# Altium footprint library Sprite.PCBLIB: 71 footprints (part 2 of 5)
Each footprint in its own frame and in the unit in brackets; x right, y up, seen from the top. Pads: shape width x height; smd on the part's side, far side on the other; paste and mask are expansions set on the pad; w line width, h text height; cw(c..) or ccw(c..) is an arc to the next point about the centre after c.
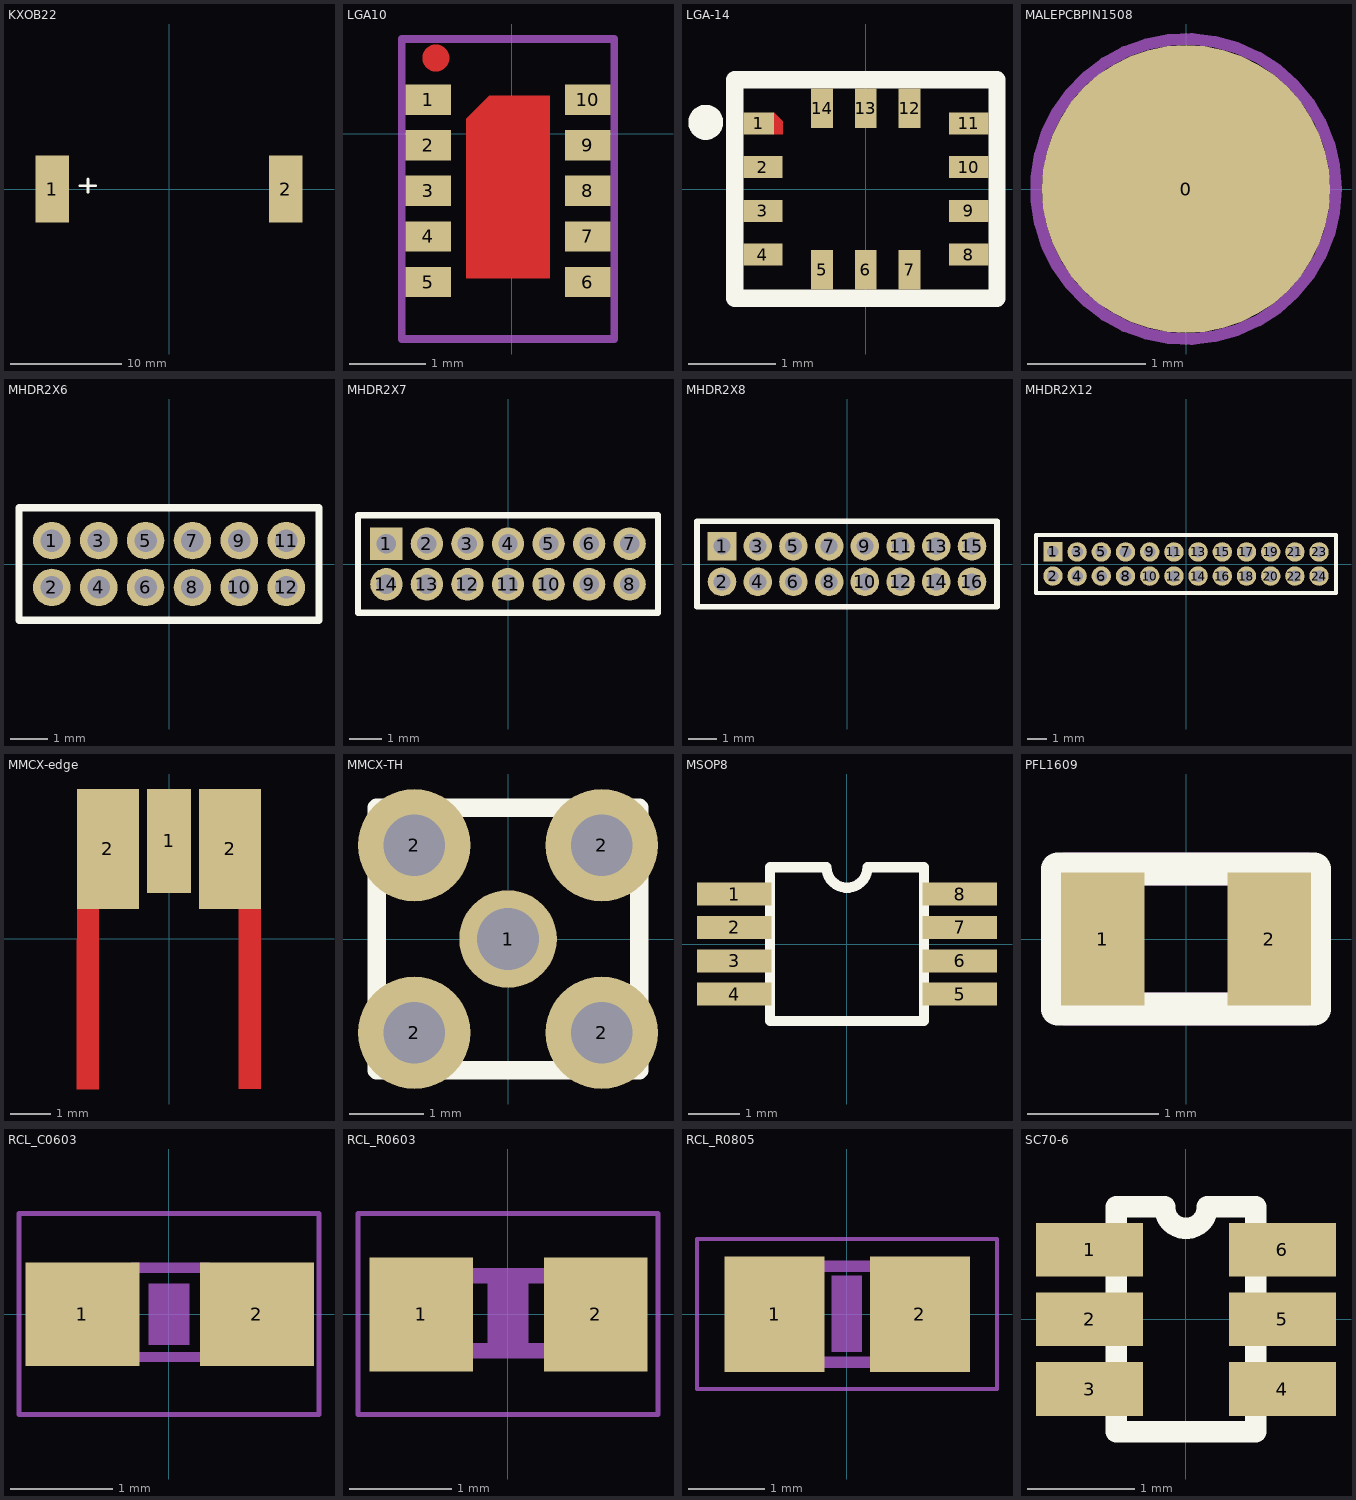
[diagram p1: the footprints below, top view; thin cyan lines are the x and y axes]

## KXOB22 [mm] "IXYS Solar Panel"
height 2
pads (2):
  rect 3x6 smd: 1(-10.5,0) 2(10.5,0)
Top Overlay:
  lines w0.254: -8,0.3 -6.6,0.3 ; -7.3,-0.3 -7.3,0.9
3D body: height 2, standoff 0, extent -11,-3.5 11,3.5

## LGA10 [mm]
pads (10):
  rect 0.6x0.4 smd: 1(-1.1,0.45) 2(-1.1,-0.15) 3(-1.1,-0.75) 4(-1.1,-1.35) 5(-1.1,-1.95) 6(1,-1.95) 7(1,-1.35) 8(1,-0.75) 9(1,-0.15) 10(1,0.45)
Top Layer:
  circle w0.254: c-1,1 r0.05
  region: 0.5,-1.9 -0.6,-1.9 -0.6,0.2 -0.3,0.5 0.5,0.5
Mechanical 13:
  lines w0.1: -1.45,-2.7 1.35,-2.7 1.35,1.25 -1.45,1.25 -1.45,0.75 -1.45,-2.25 -1.45,-2.7
3D body: height 1.1, standoff 0, extent -1.45,-2.7 1.35,1.25

## LGA-14 [mm]
pads (14):
  rect 0.35x0.25 smd mask+0.07: 1(-1.225,0.75)
  rect 0.45x0.25 smd mask+0.07: 2(-1.175,0.25) 3(-1.175,-0.25) 4(-1.175,-0.75) 8(1.175,-0.75) 9(1.175,-0.25) 10(1.175,0.25) 11(1.175,0.75)
  rect 0.25x0.45 smd mask+0.07: 5(-0.5,-0.925) 6(0,-0.925) 7(0.5,-0.925) 12(0.5,0.925) 13(0,0.925) 14(-0.5,0.925)
Top Layer:
  region: -1.05,0.875 -0.95,0.775 -0.95,0.625 -1.05,0.625
Top Overlay:
  circle w0.2: c-1.829,0.762 r0.1
  lines w0.2: -1.5,-1.25 -1.5,1.25 1.5,1.25 1.5,-1.25 -1.5,-1.25
Top Paste:
  region: -1.05,0.875 -0.95,0.775 -0.95,0.625 -1.05,0.625
Top Solder:
  region: -0.98,0.555 -0.88,0.555 -0.88,0.846 -0.98,0.946
Mechanical 13:
  lines w0.1: -1.5,-1.25 1.5,-1.25 1.5,1.25 -1.5,1.25 -1.5,-1.25
3D body: height 0.86, standoff 0, extent -1.499,-1.25 1.501,1.25

## MALEPCBPIN1508 [mil] "Mill-Max Male PCB pin PN 1508"
pads (1):
  round 96 smd paste-118.11: 0(0,0)
Mechanical 13:
  circle w3.94: c0,0 r50

## MHDR2X6 [mil]
pads (12):
  round 40 hole 24 paste+0 mask+0: 1(-125,25) 2(-125,-25) 3(-75,25) 4(-75,-25) 5(-25,25) 6(-25,-25) 7(25,25) 8(25,-25) 9(75,25) 10(75,-25) 11(125,25) 12(125,-25)
Top Overlay:
  lines w7.87: -160,-60 -160,60 160,60 160,-60 -160,-60

## MHDR2X7 [mil]
pads (14):
  rect 40x40 hole 24 paste+0 mask+0: 1(-150,25)
  round 40 hole 24 paste+0 mask+0: 2(-100,25) 3(-50,25) 4(0,25) 5(50,25) 6(100,25) 7(150,25) 8(150,-25) 9(100,-25) 10(50,-25) 11(0,-25) 12(-50,-25) 13(-100,-25) 14(-150,-25)
Top Overlay:
  lines w7.87: -185,-60 185,-60 185,60 -185,60 -185,-60

## MHDR2X8 [mil]
pads (16):
  rect 40x40 hole 24 paste+0 mask+0: 1(-175,25)
  round 40 hole 24 paste+0 mask+0: 2(-175,-25) 3(-125,25) 4(-125,-25) 5(-75,25) 6(-75,-25) 7(-25,25) 8(-25,-25) 9(25,25) 10(25,-25) 11(75,25) 12(75,-25) 13(125,25) 14(125,-25) 15(175,25) 16(175,-25)
Top Overlay:
  lines w7.87: -210,-60 -210,60 210,60 210,-60 -210,-60

## MHDR2X12 [mil]
pads (24):
  rect 40x40 hole 24 paste+0: 1(-275,25)
  round 40 hole 24 paste+0: 2(-275,-25) 3(-225,25) 4(-225,-25) 5(-175,25) 6(-175,-25) 7(-125,25) 8(-125,-25) 9(-75,25) 10(-75,-25) 11(-25,25) 12(-25,-25) 13(25,25) 14(25,-25) 15(75,25) 16(75,-25) 17(125,25) 18(125,-25) 19(175,25) 20(175,-25) 21(225,25) 22(225,-25) 23(275,25) 24(275,-25)
Top Overlay:
  lines w7.87: -310,-60 310,-60 310,60 -310,60 -310,-60

## MMCX-edge [mm] "MMCX - Board Edge Connector"
height 3.5
pads (3):
  rect 1.1x2.6 smd paste+0 mask+0.05: 1(0,2.45)
  rect 1.55x3 smd paste+0 mask+0.05: 2(-1.525,2.25) 2(1.525,2.25)
Top Layer:
  region: -2.3,3.75 -0.75,3.75 -0.75,0.75 -1.753,0.75 -1.753,-3.75 -2.3,-3.75
  region: 2.3,3.75 0.75,3.75 0.75,0.75 1.75,0.75 1.75,-3.75 2.3,-3.75
Top Paste:
  rectangle: -2.3,-3.75 -1.753,0.8
  rectangle: 1.75,-3.75 2.3,0.8
Top Solder:
  rectangle: -0.55,1.15 0.55,3.75
  region: -2.337,3.75 -0.75,3.75 -0.75,0.75 -1.75,0.75 -1.75,-3.75 -2.337,-3.75
  region: 0.75,3.75 2.337,3.75 2.337,-3.75 1.75,-3.75 1.75,0.75 0.75,0.75

## MMCX-TH [mil] "MMCX Molex TH 734151001"
height 3.5
pads (5):
  round 52 hole 33: 1(0,0)
  round 60 hole 33: 2(-50,-50) 2(-50,50) 2(50,-50) 2(50,50)
Top Overlay:
  lines w10: -70,-70 70,-70 70,70 -70,70 -70,-70
3D body: height 142, standoff 0, extent -70,-70 70,70

## MSOP8 [mm]
pads (8):
  rect 1.45x0.45 smd mask+0.05: 1(-2.2,0.975) 2(-2.2,0.325) 3(-2.2,-0.325) 4(-2.2,-0.975) 5(2.2,-0.975) 6(2.2,-0.325) 7(2.2,0.325) 8(2.2,0.975)
Top Overlay:
  lines w0.2: -1.5,-1.5 1.5,-1.5 1.5,1.5 0.4,1.5 cw(c0,1.5) -0.4,1.5 -1.5,1.5 -1.5,-1.5
3D body: height 2, standoff 1.1, extent -1.5,-1.5 1.5,1.5

## PFL1609 [mil]
pads (2):
  rect 25x40 smd: 1(-25,0) 2(25,0)
Top Overlay:
  lines w10: -38.5,-21 -38.5,0 -38.5,21 38.5,21 38.5,-21 -38.5,-21
Mechanical 13:
  lines w10: -36,-21 36,-21 36,21 -36,21 -36,-21
3D body: height 37, standoff 0, extent -36,-21 36,21

## RCL_C0603 [mil]
pads (2):
  rect 44x40 smd: 1(-33.46,0) 2(34,0)
Mechanical 2:
  text ">NAME" at -25,25 h77.5
Mechanical 4:
  text ">VALUE" at -25,-75 h77.5
Mechanical 6:
  rectangle: -7.87,-11.81 8,12
Mechanical 16:
  rectangle: 13,-18.5 33,19
  rectangle: -33,-18.5 -13.31,19
  lines w4: -14.02,-16.5 15,-16.5 ; -14.02,18 15,18
Mechanical 27:
  lines w2: -57.99,-38.7 -57.99,39 58,39 58,-38.7 -57.99,-38.7

## RCL_R0603 [mil]
pads (2):
  rect 40x44 smd: 1(-33.46,0) 2(34,0)
Mechanical 2:
  text ">NAME" at -25,25 h77.5
Mechanical 4:
  text ">VALUE" at -25,-75 h77.5
Mechanical 6:
  rectangle: -7.87,-15.75 8,16
Mechanical 16:
  rectangle: -33,-17 -17,17
  rectangle: 17,-17 33,17
  lines w6: -17.01,-14.02 18,-14.02 ; -17.01,15 18,15
Mechanical 27:
  lines w2: -57.99,-38.7 -57.99,39 58,39 58,-38.7 -57.99,-38.7

## RCL_R0805 [mil]
pads (2):
  rect 52x60 smd: 1(-37.4,0) 2(38,0)
Mechanical 2:
  text ">NAME" at -25,50 h77.5
Mechanical 4:
  text ">VALUE" at -25,-100 h77.5
Mechanical 6:
  rectangle: -7.87,-19.69 8,20
Mechanical 16:
  rectangle: -42,-27.5 -16.41,28
  rectangle: 16,-27.5 42,28
  lines w6: -16.14,-25 17,-25 ; -16.14,25 17,25
Mechanical 27:
  lines w2: -77.68,-38.7 -77.68,39 78,39 78,-38.7 -77.68,-38.7

## SC70-6 [mm]
pads (6):
  rect 1x0.5 smd mask+0.05: 1(-0.9,0.65) 2(-0.9,0) 3(-0.9,-0.65) 4(0.9,-0.65) 5(0.9,0) 6(0.9,0.65)
Top Overlay:
  lines w0.2: -0.65,-1.05 0.65,-1.05 0.65,1.05 0.2,1.05 cw(c0,1.05) -0.2,1.05 -0.65,1.05 -0.65,-1.05
3D body: height 1, standoff 0, extent -0.65,-1.05 0.65,1.05